# EAGLE library part 1554ЛИ6 (library std-logic-1554series)
АЕЯР.431200.182-08 ТУ 1554ЛИ6 - Два логических элемента "4И". Изготовитель: ОАО "ИНТЕГРАЛ", г. Минск, р. Беларусь. Технические условия (ТБМ): АЕЯР.431200.182-08 ТУ Технические условия (не ТБМ): АЕЯР.431200.093-01 ТУ
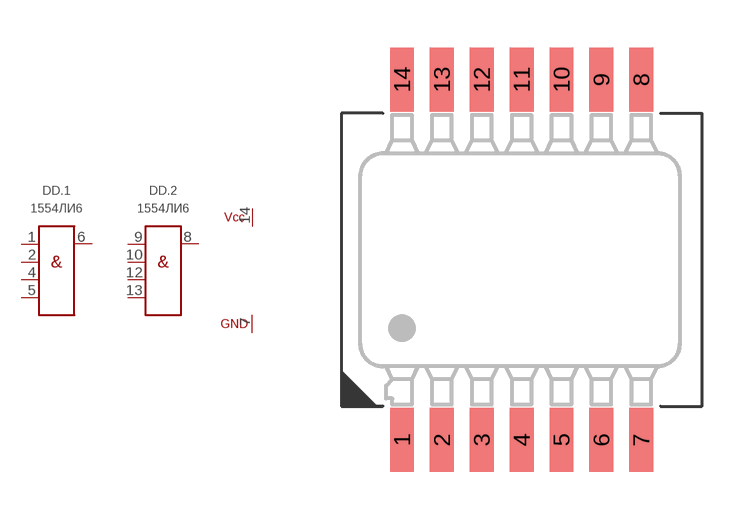
[diagram p14: symbol with the pads of 401.14-5; footprint 401.14-5]

Designator prefix DD; gates .1=1554ЛИ6 .2=1554ЛИ6 G$3=1554_PWR5

## 1554ЛИ6ТБМ  [401.14-5]
1  .1:A1  in
2  .1:A2  in
4  .1:A3  in
5  .1:A4  in
6  .1:Y  in
7  G$3:GND  pwr
8  .2:Y  in
9  .2:A1  in
10  .2:A2  in
12  .2:A3  in
13  .2:A4  in
14  G$3:VCC  pwr

## Footprint 401.14-5 (pad centres in mm)
smd 0.75 x 2: 1 -3.7,-5.65; 2 -2.45,-5.65; 3 -1.2,-5.65; 4 0.05,-5.65; 5 1.3,-5.65; 6 2.55,-5.65; 7 3.8,-5.65; 8 3.8,5.65; 9 2.55,5.65; 10 1.3,5.65; 11 0.05,5.65; 12 -1.2,5.65; 13 -2.45,5.65; 14 -3.7,5.65